# Altium footprint library HX711.PcbLib: 1 footprints
Each footprint in its own frame and in the unit in brackets; x right, y up, seen from the top. Pads: shape width x height; smd on the part's side, far side on the other; paste and mask are expansions set on the pad; w line width, h text height; cw(c..) or ccw(c..) is an arc to the next point about the centre after c.
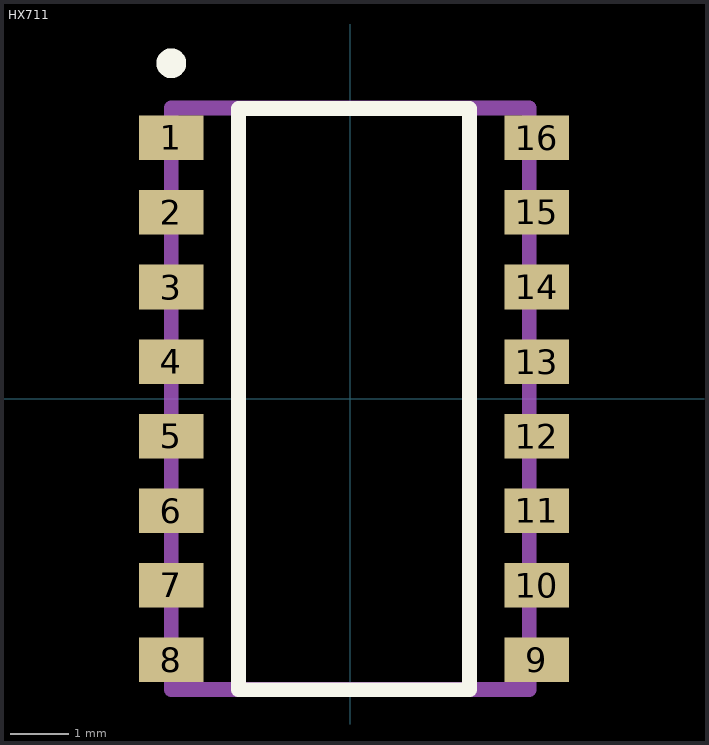
[diagram p0: the footprint, top view; thin cyan lines are the x and y axes]

## HX711 [mm] "Load Cell amplifier"
height 0.254
pads (16):
  rect 1.1x0.76 smd: 1(-3.048,4.445) 2(-3.048,3.175) 3(-3.048,1.905) 4(-3.048,0.635) 5(-3.048,-0.635) 6(-3.048,-1.905) 7(-3.048,-3.175) 8(-3.048,-4.445) 9(3.175,-4.445) 10(3.175,-3.175) 11(3.175,-1.905) 12(3.175,-0.635) 13(3.175,0.635) 14(3.175,1.905) 15(3.175,3.175) 16(3.175,4.445)
Top Overlay:
  circle w0.254: c-3.048,5.715 r0.127
  lines w0.254: -1.905,4.947 -1.905,-4.953 1.995,-4.953 ; -1.868,4.947 2.032,4.947 2.032,-4.953
Mechanical 1:
  lines w0.254: -3.048,-4.95 -3.048,4.95 3.048,4.95 3.048,-4.95 -3.048,-4.95
3D body "CD4009 SOIC-16.STEP": height 1.91, standoff -0.04, extent -3.025,-5.067 3.175,4.953